# EAGLE library part HD647751 (library micro-hitachi)
SH7751 Hitachi SuperH RISC engine The SH7751 Series microprocessor, featuring a built-in PCI bus controller compatible with PCs and multimedia devices. Source: Hitachi, Ltd. SH7751_R_V3.0.pdf
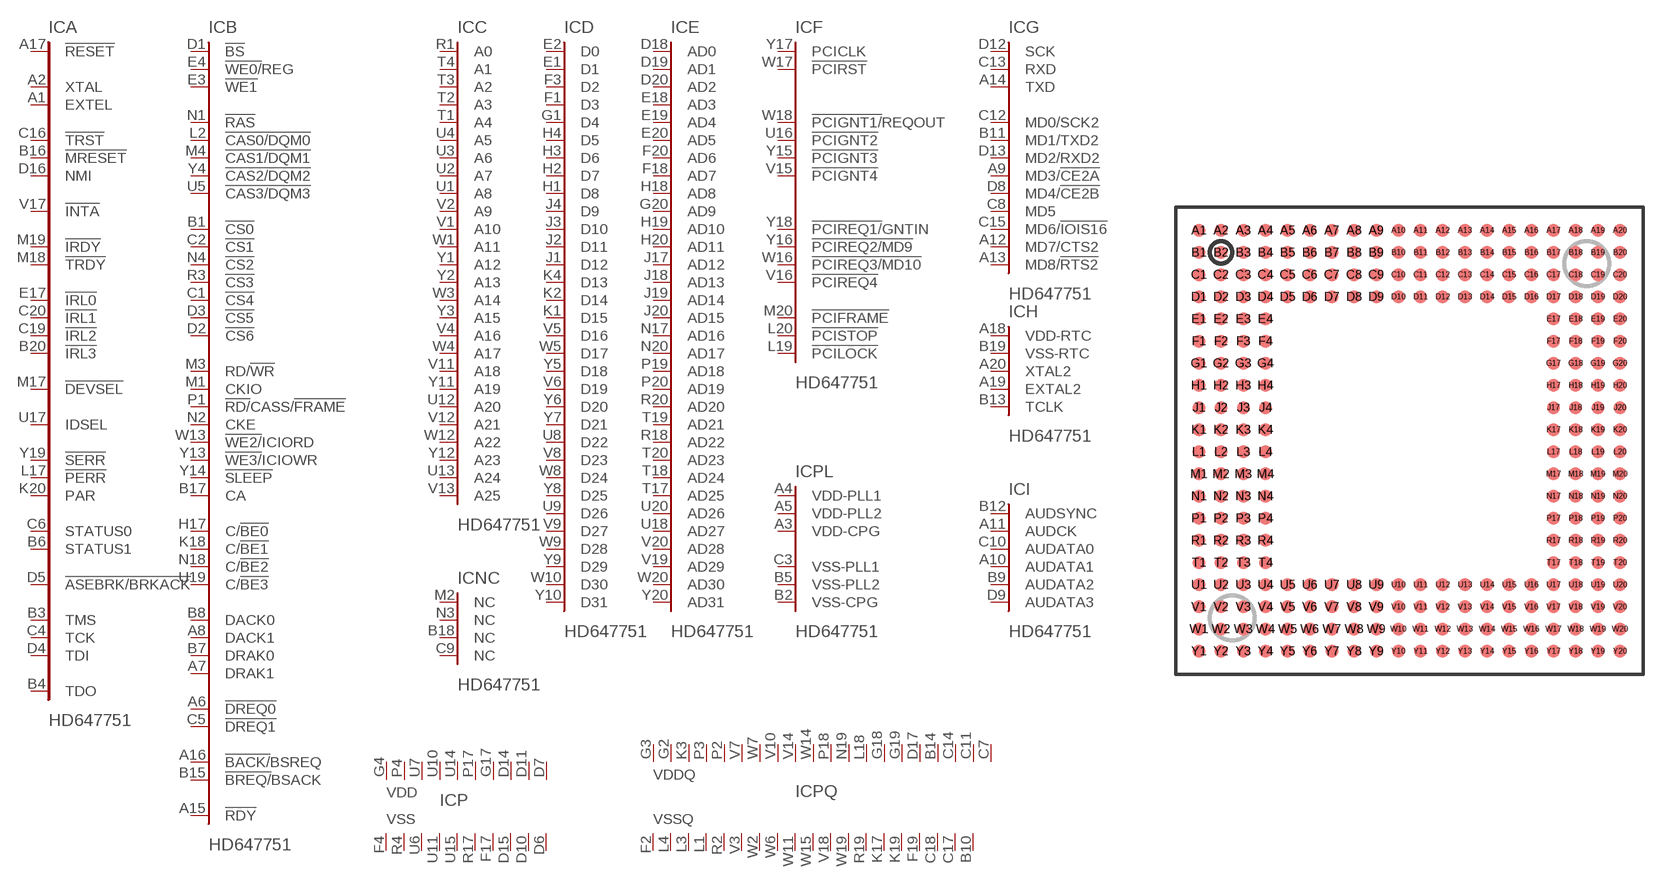
[diagram p0: symbol with the pads of BGA256; footprint BGA256]

Designator prefix IC; gates A=SH7751-S C=SH7751-A D=SH7751-D E=SH7751-AD G=SH7751-SER H=SH7751-RTC I=SH7751-AU P=SH7751-PWR PQ=SH7751-PWRQ PL=SH7751-PLL NC=SH7751-NC B=SH7751-CONTROL F=SH7751-PCI

## HD647751BP167 (OC_FARNELL: unknown; OC_NEWARK: unknown)  [BGA256]
A1  A:EXTEL  in
A2  A:XTAL  out
A3  PL:VDD-CPG  pwr
A4  PL:VDD-PLL1  pwr
A5  PL:VDD-PLL2  pwr
A6  B:!DREQ0  in
A7  B:DRAK1  out
A8  B:DACK1  out
A9  G:MD3/!CE2A
A10  I:AUDATA1  pas
A11  I:AUDCK  pas
A12  G:MD7/CTS2
A13  G:MD8/!RTS2
A14  G:TXD  out
A15  B:!RDY  in
A16  B:!BACK/!BSREQ  out
A17  A:!RESET  in
A18  H:VDD-RTC  pwr
A19  H:EXTAL2  in
A20  H:XTAL2  out
B1  B:!CS0  out
B2  PL:VSS-CPG  pwr
B3  A:TMS  in
B4  A:TDO  out
B5  PL:VSS-PLL2  pwr
B6  A:STATUS1  out
B7  B:DRAK0  out
B8  B:DACK0  out
B9  I:AUDATA2  pas
B10  PQ:VSSQ  pwr
B11  G:MD1/TXD2
B12  I:AUDSYNC  pas
B13  H:TCLK
B14  PQ:VDDQ  pwr
B15  B:!BREQ/!BSACK  in
B16  A:!MRESET  in
B17  B:CA  in
B18  NC:NC  nc
B19  H:VSS-RTC  pwr
B20  A:!IRL3  in
C1  B:!CS4  out
C2  B:!CS1  out
C3  PL:VSS-PLL1  pwr
C4  A:TCK  in
C5  B:!DREQ1  in
C6  A:STATUS0  out
C7  PQ:VDDQ  pwr
C8  G:MD5  in
C9  NC:NC  nc
C10  I:AUDATA0  pas
C11  PQ:VDDQ  pwr
C12  G:MD0/SCK2
C13  G:RXD  in
C14  PQ:VDDQ  pwr
C15  G:MD6/!IOIS16  in
C16  A:!TRST  in
C17  PQ:VSSQ  pwr
C18  PQ:VSSQ  pwr
C19  A:!IRL2  in
C20  A:!IRL1  in
D1  B:!BS  out
D2  B:!CS6  out
D3  B:!CS5  out
D4  A:TDI  in
D5  A:!ASEBRK/BRKACK
D6  P:VSS  pwr
D7  P:VDD  pwr
D8  G:MD4/!CE2B
D9  I:AUDATA3  pas
D10  P:VSS  pwr
D11  P:VDD  pwr
D12  G:SCK
D13  G:MD2/RXD2  in
D14  P:VDD  pwr
D15  P:VSS  pwr
D16  A:NMI  in
D17  PQ:VDDQ  pwr
D18  E:AD0
D19  E:AD1
D20  E:AD2
E1  D:D1
E2  D:D0
E3  B:!WE1  out
E4  B:!WE0/!REG  out
E17  A:!IRL0  in
E18  E:AD3
E19  E:AD4
E20  E:AD5
F1  D:D3
F2  PQ:VSSQ  pwr
F3  D:D2
F4  P:VSS  pwr
F17  P:VSS  pwr
F18  E:AD7
F19  PQ:VSSQ  pwr
F20  E:AD6
G1  D:D4
G2  PQ:VDDQ  pwr
G3  PQ:VDDQ  pwr
G4  P:VDD  pwr
G17  P:VDD  pwr
G18  PQ:VDDQ  pwr
G19  PQ:VDDQ  pwr
G20  E:AD9
H1  D:D8
H2  D:D7
H3  D:D6
H4  D:D5
H17  B:C/!BE0
H18  E:AD8
H19  E:AD10
H20  E:AD11
J1  D:D12
J2  D:D11
J3  D:D10
J4  D:D9
J17  E:AD12
J18  E:AD13
J19  E:AD14
J20  E:AD15
K1  D:D15
K2  D:D14
K3  PQ:VDDQ  pwr
K4  D:D13
K17  PQ:VSSQ  pwr
K18  B:C/!BE1
K19  PQ:VSSQ  pwr
K20  A:PAR
L1  PQ:VSSQ  pwr
L2  B:!CAS0/DQM0  out
L3  PQ:VSSQ  pwr
L4  PQ:VSSQ  pwr
L17  A:!PERR
L18  PQ:VDDQ  pwr
L19  F:!PCILOCK
L20  F:!PCISTOP
M1  B:CKIO  out
M2  NC:NC  nc
M3  B:RD/!WR  out
M4  B:!CAS1/DQM1  out
M17  A:!DEVSEL
M18  A:!TRDY
M19  A:!IRDY
M20  F:!PCIFRAME
N1  B:!RAS  out
N2  B:CKE  out
N3  NC:NC  nc
N4  B:!CS2  out
N17  E:AD16
N18  B:C/!BE2
N19  PQ:VDDQ  pwr
N20  E:AD17
P1  B:!RD/!CASS/!FRAME  out
P2  PQ:VDDQ  pwr
P3  PQ:VDDQ  pwr
P4  P:VDD  pwr
P17  P:VDD  pwr
P18  PQ:VDDQ  pwr
P19  E:AD18
P20  E:AD19
R1  C:A0  out
R2  PQ:VSSQ  pwr
R3  B:!CS3  out
R4  P:VSS  pwr
R17  P:VSS  pwr
R18  E:AD22
R19  PQ:VSSQ  pwr
R20  E:AD20
T1  C:A4  out
T2  C:A3  out
T3  C:A2  out
T4  C:A1  out
T17  E:AD25
T18  E:AD24
T19  E:AD21
T20  E:AD23
U1  C:A8  out
U2  C:A7  out
U3  C:A6  out
U4  C:A5  out
U5  B:!CAS3/DQM3  out
U6  P:VSS  pwr
U7  P:VDD  pwr
U8  D:D22
U9  D:D26
U10  P:VDD  pwr
U11  P:VSS  pwr
U12  C:A20  out
U13  C:A24  out
U14  P:VDD  pwr
U15  P:VSS  pwr
U16  F:!PCIGNT2  out
U17  A:IDSEL  in
U18  E:AD27
U19  B:C/!BE3
U20  E:AD26
V1  C:A10  out
V2  C:A9  out
V3  PQ:VSSQ  pwr
V4  C:A16  out
V5  D:D16
V6  D:D19
V7  PQ:VDDQ  pwr
V8  D:D23
V9  D:D27
V10  PQ:VDDQ  pwr
V11  C:A18  out
V12  C:A21  out
V13  C:A25  out
V14  PQ:VDDQ  pwr
V15  F:!PCIGNT4  out
V16  F:!PCIREQ4  in
V17  A:!INTA  out
V18  PQ:VSSQ  pwr
V19  E:AD29
V20  E:AD28
W1  C:A11  out
W2  PQ:VSSQ  pwr
W3  C:A14  out
W4  C:A17  out
W5  D:D17
W6  PQ:VSSQ  pwr
W7  PQ:VDDQ  pwr
W8  D:D24
W9  D:D28
W10  D:D30
W11  PQ:VSSQ  pwr
W12  C:A22  out
W13  B:!WE2/!ICIORD  out
W14  PQ:VDDQ  pwr
W15  PQ:VSSQ  pwr
W16  F:!PCIREQ3/MD10  in
W17  F:!PCIRST  out
W18  F:!PCIGNT1/!REQOUT  out
W19  PQ:VSSQ  pwr
W20  E:AD30
Y1  C:A12  out
Y2  C:A13  out
Y3  C:A15  out
Y4  B:!CAS2/DQM2  out
Y5  D:D18
Y6  D:D20
Y7  D:D21
Y8  D:D25
Y9  D:D29
Y10  D:D31
Y11  C:A19  out
Y12  C:A23  out
Y13  B:!WE3/!ICIOWR  out
Y14  B:!SLEEP  in
Y15  F:!PCIGNT3  out
Y16  F:!PCIREQ2/MD9  in
Y17  F:PCICLK  in
Y18  F:!PCIREQ1/!GNTIN  in
Y19  A:!SERR
Y20  E:AD31

## HD647751RBP240 (OC_FARNELL: unknown; OC_NEWARK: unknown)  [BGA256]
Pads as for BGA256

## HD647751RBP200 (OC_FARNELL: unknown; OC_NEWARK: unknown)  [BGA256]
Pads as for BGA256

## Footprint BGA256 (pad centres in mm)
256-pin BGA Hitachi Code BP-256 Source: SH7751_R_V3.0.pdf
smd 0.75 x 0.75: A1 -12.065,12.065; A2 -10.795,12.065; A3 -9.525,12.065; A4 -8.255,12.065; A5 -6.985,12.065; A6 -5.715,12.065; A7 -4.445,12.065; A8 -3.175,12.065; A9 -1.905,12.065; A10 -0.635,12.065; A11 0.635,12.065; A12 1.905,12.065; A13 3.175,12.065; A14 4.445,12.065; A15 5.715,12.065; A16 6.985,12.065; A17 8.255,12.065; A18 9.525,12.065; A19 10.795,12.065; A20 12.065,12.065; B1 -12.065,10.795; B2 -10.795,10.795; B3 -9.525,10.795; B4 -8.255,10.795; B5 -6.985,10.795; B6 -5.715,10.795; B7 -4.445,10.795; B8 -3.175,10.795; B9 -1.905,10.795; B10 -0.635,10.795; B11 0.635,10.795; B12 1.905,10.795; B13 3.175,10.795; B14 4.445,10.795; B15 5.715,10.795; B16 6.985,10.795; B17 8.255,10.795; B18 9.525,10.795; B19 10.795,10.795; B20 12.065,10.795; C1 -12.065,9.525; C2 -10.795,9.525; C3 -9.525,9.525; C4 -8.255,9.525; C5 -6.985,9.525; C6 -5.715,9.525; C7 -4.445,9.525; C8 -3.175,9.525; C9 -1.905,9.525; C10 -0.635,9.525; C11 0.635,9.525; C12 1.905,9.525; C13 3.175,9.525; C14 4.445,9.525; C15 5.715,9.525; C16 6.985,9.525; C17 8.255,9.525; C18 9.525,9.525; C19 10.795,9.525; C20 12.065,9.525; D1 -12.065,8.255; D2 -10.795,8.255; D3 -9.525,8.255; D4 -8.255,8.255; D5 -6.985,8.255; D6 -5.715,8.255; D7 -4.445,8.255; D8 -3.175,8.255; D9 -1.905,8.255; D10 -0.635,8.255; D11 0.635,8.255; D12 1.905,8.255; D13 3.175,8.255; D14 4.445,8.255; D15 5.715,8.255; D16 6.985,8.255; D17 8.255,8.255; D18 9.525,8.255; D19 10.795,8.255; D20 12.065,8.255; E1 -12.065,6.985; E2 -10.795,6.985; E3 -9.525,6.985; E4 -8.255,6.985; E17 8.255,6.985; E18 9.525,6.985; E19 10.795,6.985; E20 12.065,6.985; F1 -12.065,5.715; F2 -10.795,5.715; F3 -9.525,5.715; F4 -8.255,5.715; F17 8.255,5.715; F18 9.525,5.715; F19 10.795,5.715; F20 12.065,5.715; G1 -12.065,4.445; G2 -10.795,4.445; G3 -9.525,4.445; G4 -8.255,4.445; G17 8.255,4.445; G18 9.525,4.445; G19 10.795,4.445; G20 12.065,4.445; H1 -12.065,3.175; H2 -10.795,3.175; H3 -9.525,3.175; H4 -8.255,3.175; H17 8.255,3.175; H18 9.525,3.175; H19 10.795,3.175; H20 12.065,3.175; J1 -12.065,1.905; J2 -10.795,1.905; J3 -9.525,1.905; J4 -8.255,1.905; J17 8.255,1.905; J18 9.525,1.905; J19 10.795,1.905; J20 12.065,1.905; K1 -12.065,0.635; K2 -10.795,0.635; K3 -9.525,0.635; K4 -8.255,0.635; K17 8.255,0.635; K18 9.525,0.635; K19 10.795,0.635; K20 12.065,0.635; L1 -12.065,-0.635; L2 -10.795,-0.635; L3 -9.525,-0.635; L4 -8.255,-0.635; L17 8.255,-0.635; L18 9.525,-0.635; L19 10.795,-0.635; L20 12.065,-0.635; M1 -12.065,-1.905; M2 -10.795,-1.905; M3 -9.525,-1.905; M4 -8.255,-1.905; M17 8.255,-1.905; M18 9.525,-1.905; M19 10.795,-1.905; M20 12.065,-1.905; N1 -12.065,-3.175; N2 -10.795,-3.175; N3 -9.525,-3.175; N4 -8.255,-3.175; N17 8.255,-3.175; N18 9.525,-3.175; N19 10.795,-3.175; N20 12.065,-3.175; P1 -12.065,-4.445; P2 -10.795,-4.445; P3 -9.525,-4.445; P4 -8.255,-4.445; P17 8.255,-4.445; P18 9.525,-4.445; P19 10.795,-4.445; P20 12.065,-4.445; R1 -12.065,-5.715; R2 -10.795,-5.715; R3 -9.525,-5.715; R4 -8.255,-5.715; R17 8.255,-5.715; R18 9.525,-5.715; R19 10.795,-5.715; R20 12.065,-5.715; T1 -12.065,-6.985; T2 -10.795,-6.985; T3 -9.525,-6.985; T4 -8.255,-6.985; T17 8.255,-6.985; T18 9.525,-6.985; T19 10.795,-6.985; T20 12.065,-6.985; U1 -12.065,-8.255; U2 -10.795,-8.255; U3 -9.525,-8.255; U4 -8.255,-8.255; U5 -6.985,-8.255; U6 -5.715,-8.255; U7 -4.445,-8.255; U8 -3.175,-8.255; U9 -1.905,-8.255; U10 -0.635,-8.255; U11 0.635,-8.255; U12 1.905,-8.255; U13 3.175,-8.255; U14 4.445,-8.255; U15 5.715,-8.255; U16 6.985,-8.255; U17 8.255,-8.255; U18 9.525,-8.255; U19 10.795,-8.255; U20 12.065,-8.255; V1 -12.065,-9.525; V2 -10.795,-9.525; V3 -9.525,-9.525; V4 -8.255,-9.525; V5 -6.985,-9.525; V6 -5.715,-9.525; V7 -4.445,-9.525; V8 -3.175,-9.525; V9 -1.905,-9.525; V10 -0.635,-9.525; V11 0.635,-9.525; V12 1.905,-9.525; V13 3.175,-9.525; V14 4.445,-9.525; V15 5.715,-9.525; V16 6.985,-9.525; V17 8.255,-9.525; V18 9.525,-9.525; V19 10.795,-9.525; V20 12.065,-9.525; W1 -12.065,-10.795; W2 -10.795,-10.795; W3 -9.525,-10.795; W4 -8.255,-10.795; W5 -6.985,-10.795; W6 -5.715,-10.795; W7 -4.445,-10.795; W8 -3.175,-10.795; W9 -1.905,-10.795; W10 -0.635,-10.795; W11 0.635,-10.795; W12 1.905,-10.795; W13 3.175,-10.795; W14 4.445,-10.795; W15 5.715,-10.795; W16 6.985,-10.795; W17 8.255,-10.795; W18 9.525,-10.795; W19 10.795,-10.795; W20 12.065,-10.795; Y1 -12.065,-12.065; Y2 -10.795,-12.065; Y3 -9.525,-12.065; Y4 -8.255,-12.065; Y5 -6.985,-12.065; Y6 -5.715,-12.065; Y7 -4.445,-12.065; Y8 -3.175,-12.065; Y9 -1.905,-12.065; Y10 -0.635,-12.065; Y11 0.635,-12.065; Y12 1.905,-12.065; Y13 3.175,-12.065; Y14 4.445,-12.065; Y15 5.715,-12.065; Y16 6.985,-12.065; Y17 8.255,-12.065; Y18 9.525,-12.065; Y19 10.795,-12.065; Y20 12.065,-12.065